# EAGLE library part 00SPEEDY_EE16/7/5_THT_H_10PIN (library Wurth Electronics Midcom Inc V1-0)
Package Style: Speedy EE16/7/5 Mounting: THT Pins: 10 pins Bobbin: 070-5472 Best pinouts for production vary per application. Please contact Wurth Electronics Midcom, Inc. for assistance with your custom design. Website: Wurth Electronics Midcom <http://www.we-online.com/midcom> Contact us Wurth Electronics Midcom, Inc. 121 Airport Dr. Watertown, SD 57201 Phone: (605) 886-4385 Fax: (605) 886-4486 E-Mail: midcom@we-online.com
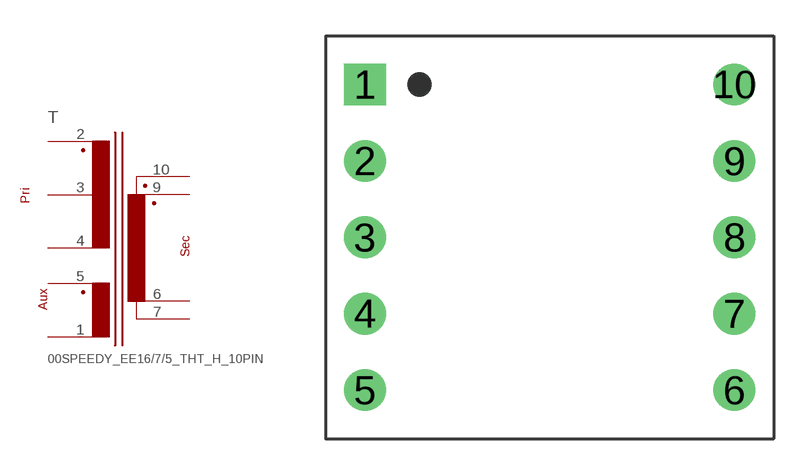
[diagram p102: symbol with the pads of 00SPEEDY_EE16/7/5_THT_H_10PIN; footprint 00SPEEDY_EE16/7/5_THT_H_10PIN]

Designator prefix T

## 00SPEEDY_EE16/7/5_THT_H_10PIN  [00SPEEDY_EE16/7/5_THT_H_10PIN]
1  5  pas
2  1  pas
3  2  pas
4  3  pas
5  4  pas
6  9  pas
7  6  pas
9  8  pas
10  7  pas

## Footprint 00SPEEDY_EE16/7/5_THT_H_10PIN (pad centres in mm)
Package Style: Speedy EE16/7/5 Mounting: THT Pins: 10 pins Bobbin: 070-5472
drill 1.168 square: 1 -7.747,6.401
drill 1.168 round: 2 -7.747,3.2; 3 -7.747,0; 4 -7.747,-3.2; 5 -7.747,-6.401; 6 7.747,-6.401; 7 7.747,-3.2; 8 7.747,0; 9 7.747,3.2; 10 7.747,6.401